# Altium schematic symbol library jlcpcb_2025_04_inductors_extended_1210.schlib: 422 symbols (part 7 of 8)
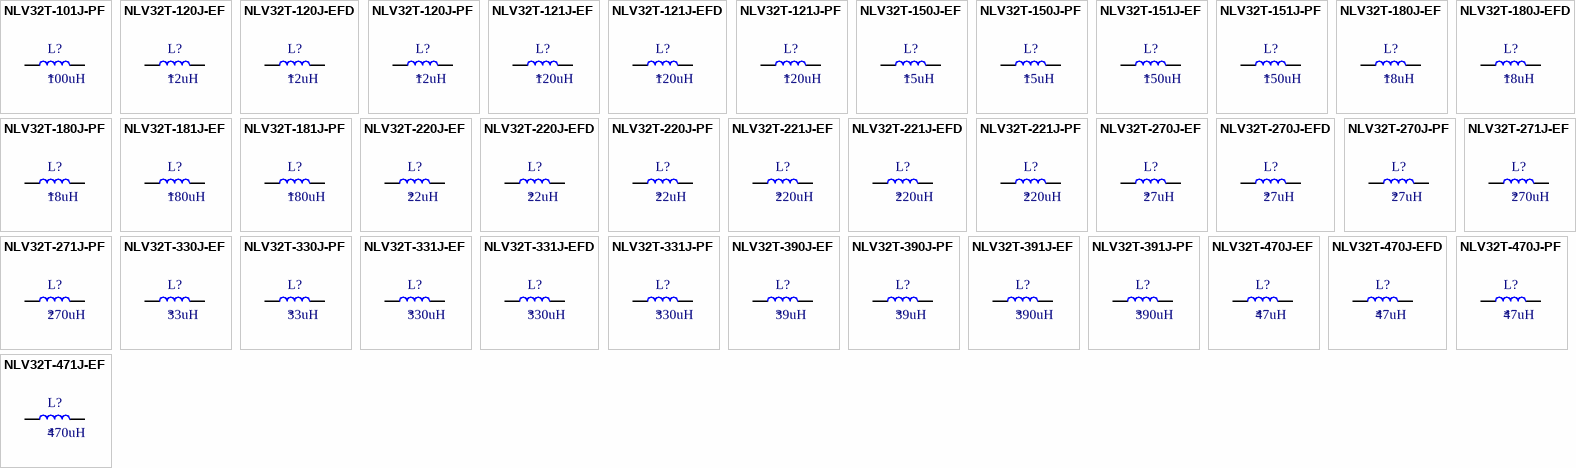
[diagram p16: symbols NLV32T-101J-PF to NLV32T-471J-EF]

## NLV32T-121J-EFD
designator L?  Inductance: 120uH
Inductor, 120uH, ±5%, 11Ω, 70mA, SMD 1210; Manufacturer: TDK; Manufacturer Part Number: NLV32T-121J-EFD; Self-Resonant Frequency: 10MHz; Q Factor: 20@0.796MHz; Package Size: 1210; JLCPCB Basic Part: No; JLCPCB Part Number: C295331; Supplier 1: LCSC; Category: Inductors; Supplier Part Number 1: C295331; Tolerance: ±5%; Rated Current: 70mA; DC Resistance: 11Ω; RoHS: Yes; ComponentLink1Description: Datasheet; ComponentLink1URL: https://wmsc.lcsc.com/wmsc/upload/file/pdf/v2/lcsc/2304140030_TDK-NLV32T-121J-EFD_C295331.pdf; ComponentLink2Description: JLCPCB Part URL; ComponentLink2URL: https://jlcpcb.com/partdetail/C295331; ComponentLink3Description: LCSC Part URL; ComponentLink3URL: https://lcsc.com/product-detail/Inductors-SMD_TDK-TDK-NLV32T-121J-EFD_C295331.html
footprint IND-1210 (1210 (3225M) Inductor)
pins: 1, 2

## NLV32T-121J-PF
designator L?  Inductance: 120uH
Inductor, 120uH, ±5%, 11Ω, 70mA, SMD 1210; Manufacturer: TDK; Manufacturer Part Number: NLV32T-121J-PF; Self-Resonant Frequency: 10MHz; Q Factor: 20@0.796MHz; Package Size: 1210; JLCPCB Basic Part: No; JLCPCB Part Number: C250178; Supplier 1: LCSC; Category: Inductors; Supplier Part Number 1: C250178; Tolerance: ±5%; Rated Current: 70mA; DC Resistance: 11Ω; RoHS: Yes; ComponentLink1Description: Datasheet; ComponentLink1URL: https://wmsc.lcsc.com/wmsc/upload/file/pdf/v2/lcsc/2304140030_TDK-NLV32T-121J-PF_C250178.pdf; ComponentLink2Description: JLCPCB Part URL; ComponentLink2URL: https://jlcpcb.com/partdetail/C250178; ComponentLink3Description: LCSC Part URL; ComponentLink3URL: https://lcsc.com/product-detail/Inductors-SMD_TDK-TDK-NLV32T-121J-PF_C250178.html
footprint IND-1210 (1210 (3225M) Inductor)
pins: 1, 2

## NLV32T-150J-EF
designator L?  Inductance: 15uH
Inductor, 15uH, ±5%, 2.8Ω, 130mA, SMD 1210; Manufacturer: TDK; Manufacturer Part Number: NLV32T-150J-EF; Self-Resonant Frequency: 20MHz; Q Factor: 30@2.52MHz; Package Size: 1210; JLCPCB Basic Part: No; JLCPCB Part Number: C295141; Supplier 1: LCSC; Category: Inductors; Supplier Part Number 1: C295141; Tolerance: ±5%; Rated Current: 130mA; DC Resistance: 2.8Ω; RoHS: Yes; ComponentLink1Description: Datasheet; ComponentLink1URL: https://wmsc.lcsc.com/wmsc/upload/file/pdf/v2/lcsc/2304140030_TDK-NLV32T-150J-EF_C295141.pdf; ComponentLink2Description: JLCPCB Part URL; ComponentLink2URL: https://jlcpcb.com/partdetail/C295141; ComponentLink3Description: LCSC Part URL; ComponentLink3URL: https://lcsc.com/product-detail/Inductors-SMD_TDK-TDK-NLV32T-150J-EF_C295141.html
footprint IND-1210 (1210 (3225M) Inductor)
pins: 1, 2

## NLV32T-150J-PF
designator L?  Inductance: 15uH
Inductor, 15uH, ±5%, 2.8Ω, 130mA, SMD 1210; Manufacturer: TDK; Manufacturer Part Number: NLV32T-150J-PF; Self-Resonant Frequency: 20MHz; Q Factor: 30@2.52MHz; Package Size: 1210; JLCPCB Basic Part: No; JLCPCB Part Number: C89013; Supplier 1: LCSC; Category: Inductors; Supplier Part Number 1: C89013; Tolerance: ±5%; Rated Current: 130mA; DC Resistance: 2.8Ω; RoHS: Yes; ComponentLink1Description: Datasheet; ComponentLink1URL: https://wmsc.lcsc.com/wmsc/upload/file/pdf/v2/lcsc/2304140030_TDK-NLV32T-150J-PF_C89013.pdf; ComponentLink2Description: JLCPCB Part URL; ComponentLink2URL: https://jlcpcb.com/partdetail/C89013; ComponentLink3Description: LCSC Part URL; ComponentLink3URL: https://lcsc.com/product-detail/Inductors-SMD_TDK-TDK-NLV32T-150J-PF_C89013.html
footprint IND-1210 (1210 (3225M) Inductor)
pins: 1, 2

## NLV32T-151J-EF
designator L?  Inductance: 150uH
Inductor, 150uH, ±5%, 15Ω, 65mA, SMD 1210; Manufacturer: TDK; Manufacturer Part Number: NLV32T-151J-EF; Self-Resonant Frequency: 8MHz; Q Factor: 20@0.796MHz; Package Size: 1210; JLCPCB Basic Part: No; JLCPCB Part Number: C286754; Supplier 1: LCSC; Category: Inductors; Supplier Part Number 1: C286754; Tolerance: ±5%; Rated Current: 65mA; DC Resistance: 15Ω; RoHS: Yes; ComponentLink1Description: Datasheet; ComponentLink1URL: https://wmsc.lcsc.com/wmsc/upload/file/pdf/v2/lcsc/2304140030_TDK-NLV32T-151J-EF_C286754.pdf; ComponentLink2Description: JLCPCB Part URL; ComponentLink2URL: https://jlcpcb.com/partdetail/C286754; ComponentLink3Description: LCSC Part URL; ComponentLink3URL: https://lcsc.com/product-detail/Inductors-SMD_TDK-TDK-NLV32T-151J-EF_C286754.html
footprint IND-1210 (1210 (3225M) Inductor)
pins: 1, 2

## NLV32T-151J-PF
designator L?  Inductance: 150uH
Inductor, 150uH, ±5%, 15Ω, 65mA, SMD 1210; Manufacturer: TDK; Manufacturer Part Number: NLV32T-151J-PF; Self-Resonant Frequency: 8MHz; Q Factor: 20@0.796MHz; Package Size: 1210; JLCPCB Basic Part: No; JLCPCB Part Number: C250179; Supplier 1: LCSC; Category: Inductors; Supplier Part Number 1: C250179; Tolerance: ±5%; Rated Current: 65mA; DC Resistance: 15Ω; RoHS: Yes; ComponentLink1Description: Datasheet; ComponentLink1URL: https://wmsc.lcsc.com/wmsc/upload/file/pdf/v2/lcsc/2304140030_TDK-NLV32T-151J-PF_C250179.pdf; ComponentLink2Description: JLCPCB Part URL; ComponentLink2URL: https://jlcpcb.com/partdetail/C250179; ComponentLink3Description: LCSC Part URL; ComponentLink3URL: https://lcsc.com/product-detail/Inductors-SMD_TDK-TDK-NLV32T-151J-PF_C250179.html
footprint IND-1210 (1210 (3225M) Inductor)
pins: 1, 2

## NLV32T-180J-EF
designator L?  Inductance: 18uH
Inductor, 18uH, ±5%, 3.3Ω, 120mA, SMD 1210; Manufacturer: TDK; Manufacturer Part Number: NLV32T-180J-EF; Self-Resonant Frequency: 20MHz; Q Factor: 30@2.52MHz; Package Size: 1210; JLCPCB Basic Part: No; JLCPCB Part Number: C295126; Supplier 1: LCSC; Category: Inductors; Supplier Part Number 1: C295126; Tolerance: ±5%; Rated Current: 120mA; DC Resistance: 3.3Ω; RoHS: Yes; ComponentLink1Description: Datasheet; ComponentLink1URL: https://wmsc.lcsc.com/wmsc/upload/file/pdf/v2/lcsc/2304140030_TDK-NLV32T-180J-EF_C295126.pdf; ComponentLink2Description: JLCPCB Part URL; ComponentLink2URL: https://jlcpcb.com/partdetail/C295126; ComponentLink3Description: LCSC Part URL; ComponentLink3URL: https://lcsc.com/product-detail/Inductors-SMD_TDK-TDK-NLV32T-180J-EF_C295126.html
footprint IND-1210 (1210 (3225M) Inductor)
pins: 1, 2

## NLV32T-180J-EFD
designator L?  Inductance: 18uH
Inductor, 18uH, ±5%, 3.3Ω, 120mA, SMD 1210; Manufacturer: TDK; Manufacturer Part Number: NLV32T-180J-EFD; Self-Resonant Frequency: 20MHz; Q Factor: 30@2.52MHz; Package Size: 1210; JLCPCB Basic Part: No; JLCPCB Part Number: C295205; Supplier 1: LCSC; Category: Inductors; Supplier Part Number 1: C295205; Tolerance: ±5%; Rated Current: 120mA; DC Resistance: 3.3Ω; RoHS: Yes; ComponentLink1Description: Datasheet; ComponentLink1URL: https://wmsc.lcsc.com/wmsc/upload/file/pdf/v2/lcsc/2304140030_TDK-NLV32T-180J-EFD_C295205.pdf; ComponentLink2Description: JLCPCB Part URL; ComponentLink2URL: https://jlcpcb.com/partdetail/C295205; ComponentLink3Description: LCSC Part URL; ComponentLink3URL: https://lcsc.com/product-detail/Inductors-SMD_TDK-TDK-NLV32T-180J-EFD_C295205.html
footprint IND-1210 (1210 (3225M) Inductor)
pins: 1, 2

## NLV32T-180J-PF
designator L?  Inductance: 18uH
Inductor, 18uH, ±5%, 3.3Ω, 120mA, SMD 1210; Manufacturer: TDK; Manufacturer Part Number: NLV32T-180J-PF; Self-Resonant Frequency: 20MHz; Q Factor: 30@2.52MHz; Package Size: 1210; JLCPCB Basic Part: No; JLCPCB Part Number: C250177; Supplier 1: LCSC; Category: Inductors; Supplier Part Number 1: C250177; Tolerance: ±5%; Rated Current: 120mA; DC Resistance: 3.3Ω; RoHS: Yes; ComponentLink1Description: Datasheet; ComponentLink1URL: https://wmsc.lcsc.com/wmsc/upload/file/pdf/v2/lcsc/2304140030_TDK-NLV32T-180J-PF_C250177.pdf; ComponentLink2Description: JLCPCB Part URL; ComponentLink2URL: https://jlcpcb.com/partdetail/C250177; ComponentLink3Description: LCSC Part URL; ComponentLink3URL: https://lcsc.com/product-detail/Inductors-SMD_TDK-TDK-NLV32T-180J-PF_C250177.html
footprint IND-1210 (1210 (3225M) Inductor)
pins: 1, 2

## NLV32T-181J-EF
designator L?  Inductance: 180uH
Inductor, 180uH, ±5%, 17Ω, 60mA, SMD 1210; Manufacturer: TDK; Manufacturer Part Number: NLV32T-181J-EF; Self-Resonant Frequency: 7MHz; Q Factor: 20@0.796MHz; Package Size: 1210; JLCPCB Basic Part: No; JLCPCB Part Number: C295119; Supplier 1: LCSC; Category: Inductors; Supplier Part Number 1: C295119; Tolerance: ±5%; Rated Current: 60mA; DC Resistance: 17Ω; RoHS: Yes; ComponentLink1Description: Datasheet; ComponentLink1URL: https://wmsc.lcsc.com/wmsc/upload/file/pdf/v2/lcsc/2304140030_TDK-NLV32T-181J-EF_C295119.pdf; ComponentLink2Description: JLCPCB Part URL; ComponentLink2URL: https://jlcpcb.com/partdetail/C295119; ComponentLink3Description: LCSC Part URL; ComponentLink3URL: https://lcsc.com/product-detail/Inductors-SMD_TDK-TDK-NLV32T-181J-EF_C295119.html
footprint IND-1210 (1210 (3225M) Inductor)
pins: 1, 2

## NLV32T-181J-PF
designator L?  Inductance: 180uH
Inductor, 180uH, ±5%, 17Ω, 60mA, SMD 1210; Manufacturer: TDK; Manufacturer Part Number: NLV32T-181J-PF; Self-Resonant Frequency: 7MHz; Q Factor: 20@0.796MHz; Package Size: 1210; JLCPCB Basic Part: No; JLCPCB Part Number: C89014; Supplier 1: LCSC; Category: Inductors; Supplier Part Number 1: C89014; Tolerance: ±5%; Rated Current: 60mA; DC Resistance: 17Ω; RoHS: Yes; ComponentLink1Description: Datasheet; ComponentLink1URL: https://wmsc.lcsc.com/wmsc/upload/file/pdf/v2/lcsc/2304140030_TDK-NLV32T-181J-PF_C89014.pdf; ComponentLink2Description: JLCPCB Part URL; ComponentLink2URL: https://jlcpcb.com/partdetail/C89014; ComponentLink3Description: LCSC Part URL; ComponentLink3URL: https://lcsc.com/product-detail/Inductors-SMD_TDK-TDK-NLV32T-181J-PF_C89014.html
footprint IND-1210 (1210 (3225M) Inductor)
pins: 1, 2

## NLV32T-220J-EF
designator L?  Inductance: 22uH
Inductor, 22uH, ±5%, 3.7Ω, 110mA, SMD 1210; Manufacturer: TDK; Manufacturer Part Number: NLV32T-220J-EF; Self-Resonant Frequency: 20MHz; Q Factor: 30@2.52MHz; Package Size: 1210; JLCPCB Basic Part: No; JLCPCB Part Number: C295143; Supplier 1: LCSC; Category: Inductors; Supplier Part Number 1: C295143; Tolerance: ±5%; Rated Current: 110mA; DC Resistance: 3.7Ω; RoHS: Yes; ComponentLink1Description: Datasheet; ComponentLink1URL: https://wmsc.lcsc.com/wmsc/upload/file/pdf/v2/lcsc/2304140030_TDK-NLV32T-220J-EF_C295143.pdf; ComponentLink2Description: JLCPCB Part URL; ComponentLink2URL: https://jlcpcb.com/partdetail/C295143; ComponentLink3Description: LCSC Part URL; ComponentLink3URL: https://lcsc.com/product-detail/Inductors-SMD_TDK-TDK-NLV32T-220J-EF_C295143.html
footprint IND-1210 (1210 (3225M) Inductor)
pins: 1, 2

## NLV32T-220J-EFD
designator L?  Inductance: 22uH
Inductor, 22uH, ±5%, 3.7Ω, 110mA, SMD 1210; Manufacturer: TDK; Manufacturer Part Number: NLV32T-220J-EFD; Self-Resonant Frequency: 20MHz; Q Factor: 30@2.52MHz; Package Size: 1210; JLCPCB Basic Part: No; JLCPCB Part Number: C295206; Supplier 1: LCSC; Category: Inductors; Supplier Part Number 1: C295206; Tolerance: ±5%; Rated Current: 110mA; DC Resistance: 3.7Ω; RoHS: Yes; ComponentLink1Description: Datasheet; ComponentLink1URL: https://wmsc.lcsc.com/wmsc/upload/file/pdf/v2/lcsc/2304140030_TDK-NLV32T-220J-EFD_C295206.pdf; ComponentLink2Description: JLCPCB Part URL; ComponentLink2URL: https://jlcpcb.com/partdetail/C295206; ComponentLink3Description: LCSC Part URL; ComponentLink3URL: https://lcsc.com/product-detail/Inductors-SMD_TDK-TDK-NLV32T-220J-EFD_C295206.html
footprint IND-1210 (1210 (3225M) Inductor)
pins: 1, 2

## NLV32T-220J-PF
designator L?  Inductance: 22uH
Inductor, 22uH, ±5%, 3.7Ω, 110mA, SMD 1210; Manufacturer: TDK; Manufacturer Part Number: NLV32T-220J-PF; Self-Resonant Frequency: 20MHz; Q Factor: 30@2.52MHz; Package Size: 1210; JLCPCB Basic Part: No; JLCPCB Part Number: C76838; Supplier 1: LCSC; Category: Inductors; Supplier Part Number 1: C76838; Tolerance: ±5%; Rated Current: 110mA; DC Resistance: 3.7Ω; RoHS: Yes; ComponentLink1Description: Datasheet; ComponentLink1URL: https://wmsc.lcsc.com/wmsc/upload/file/pdf/v2/lcsc/2304140030_TDK-NLV32T-220J-PF_C76838.pdf; ComponentLink2Description: JLCPCB Part URL; ComponentLink2URL: https://jlcpcb.com/partdetail/C76838; ComponentLink3Description: LCSC Part URL; ComponentLink3URL: https://lcsc.com/product-detail/Inductors-SMD_TDK-TDK-NLV32T-220J-PF_C76838.html
footprint IND-1210 (1210 (3225M) Inductor)
pins: 1, 2

## NLV32T-221J-EF
designator L?  Inductance: 220uH
Inductor, 220uH, ±5%, 21Ω, 50mA, SMD 1210; Manufacturer: TDK; Manufacturer Part Number: NLV32T-221J-EF; Self-Resonant Frequency: 7MHz; Q Factor: 20@0.796MHz; Package Size: 1210; JLCPCB Basic Part: No; JLCPCB Part Number: C295114; Supplier 1: LCSC; Category: Inductors; Supplier Part Number 1: C295114; Tolerance: ±5%; Rated Current: 50mA; DC Resistance: 21Ω; RoHS: Yes; ComponentLink1Description: Datasheet; ComponentLink1URL: https://wmsc.lcsc.com/wmsc/upload/file/pdf/v2/lcsc/2304140030_TDK-NLV32T-221J-EF_C295114.pdf; ComponentLink2Description: JLCPCB Part URL; ComponentLink2URL: https://jlcpcb.com/partdetail/C295114; ComponentLink3Description: LCSC Part URL; ComponentLink3URL: https://lcsc.com/product-detail/Inductors-SMD_TDK-TDK-NLV32T-221J-EF_C295114.html
footprint IND-1210 (1210 (3225M) Inductor)
pins: 1, 2

## NLV32T-221J-EFD
designator L?  Inductance: 220uH
Inductor, 220uH, ±5%, 21Ω, 50mA, SMD 1210; Manufacturer: TDK; Manufacturer Part Number: NLV32T-221J-EFD; Self-Resonant Frequency: 7MHz; Q Factor: 20@0.796MHz; Package Size: 1210; JLCPCB Basic Part: No; JLCPCB Part Number: C295364; Supplier 1: LCSC; Category: Inductors; Supplier Part Number 1: C295364; Tolerance: ±5%; Rated Current: 50mA; DC Resistance: 21Ω; RoHS: Yes; ComponentLink1Description: Datasheet; ComponentLink1URL: https://wmsc.lcsc.com/wmsc/upload/file/pdf/v2/lcsc/2304140030_TDK-NLV32T-221J-EFD_C295364.pdf; ComponentLink2Description: JLCPCB Part URL; ComponentLink2URL: https://jlcpcb.com/partdetail/C295364; ComponentLink3Description: LCSC Part URL; ComponentLink3URL: https://lcsc.com/product-detail/Inductors-SMD_TDK-TDK-NLV32T-221J-EFD_C295364.html
footprint IND-1210 (1210 (3225M) Inductor)
pins: 1, 2

## NLV32T-221J-PF
designator L?  Inductance: 220uH
Inductor, 220uH, ±5%, 21Ω, 50mA, SMD 1210; Manufacturer: TDK; Manufacturer Part Number: NLV32T-221J-PF; Self-Resonant Frequency: 7MHz; Q Factor: 20@0.796MHz; Package Size: 1210; JLCPCB Basic Part: No; JLCPCB Part Number: C89015; Supplier 1: LCSC; Category: Inductors; Supplier Part Number 1: C89015; Tolerance: ±5%; Rated Current: 50mA; DC Resistance: 21Ω; RoHS: Yes; ComponentLink1Description: Datasheet; ComponentLink1URL: https://wmsc.lcsc.com/wmsc/upload/file/pdf/v2/lcsc/2304140030_TDK-NLV32T-221J-PF_C89015.pdf; ComponentLink2Description: JLCPCB Part URL; ComponentLink2URL: https://jlcpcb.com/partdetail/C89015; ComponentLink3Description: LCSC Part URL; ComponentLink3URL: https://lcsc.com/product-detail/Inductors-SMD_TDK-TDK-NLV32T-221J-PF_C89015.html
footprint IND-1210 (1210 (3225M) Inductor)
pins: 1, 2

## NLV32T-270J-EF
designator L?  Inductance: 27uH
Inductor, 27uH, ±5%, 5Ω, 80mA, SMD 1210; Manufacturer: TDK; Manufacturer Part Number: NLV32T-270J-EF; Self-Resonant Frequency: 20MHz; Q Factor: 30@2.52MHz; Package Size: 1210; JLCPCB Basic Part: No; JLCPCB Part Number: C295122; Supplier 1: LCSC; Category: Inductors; Supplier Part Number 1: C295122; Tolerance: ±5%; Rated Current: 80mA; DC Resistance: 5Ω; RoHS: Yes; ComponentLink1Description: Datasheet; ComponentLink1URL: https://wmsc.lcsc.com/wmsc/upload/file/pdf/v2/lcsc/2304140030_TDK-NLV32T-270J-EF_C295122.pdf; ComponentLink2Description: JLCPCB Part URL; ComponentLink2URL: https://jlcpcb.com/partdetail/C295122; ComponentLink3Description: LCSC Part URL; ComponentLink3URL: https://lcsc.com/product-detail/Inductors-SMD_TDK-TDK-NLV32T-270J-EF_C295122.html
footprint IND-1210 (1210 (3225M) Inductor)
pins: 1, 2

## NLV32T-270J-EFD
designator L?  Inductance: 27uH
Inductor, 27uH, ±5%, 5Ω, 80mA, SMD 1210; Manufacturer: TDK; Manufacturer Part Number: NLV32T-270J-EFD; Self-Resonant Frequency: 20MHz; Q Factor: 30@2.52MHz; Package Size: 1210; JLCPCB Basic Part: No; JLCPCB Part Number: C295365; Supplier 1: LCSC; Category: Inductors; Supplier Part Number 1: C295365; Tolerance: ±5%; Rated Current: 80mA; DC Resistance: 5Ω; RoHS: Yes; ComponentLink1Description: Datasheet; ComponentLink1URL: https://wmsc.lcsc.com/wmsc/upload/file/pdf/v2/lcsc/2304140030_TDK-NLV32T-270J-EFD_C295365.pdf; ComponentLink2Description: JLCPCB Part URL; ComponentLink2URL: https://jlcpcb.com/partdetail/C295365; ComponentLink3Description: LCSC Part URL; ComponentLink3URL: https://lcsc.com/product-detail/Inductors-SMD_TDK-TDK-NLV32T-270J-EFD_C295365.html
footprint IND-1210 (1210 (3225M) Inductor)
pins: 1, 2

## NLV32T-270J-PF
designator L?  Inductance: 27uH
Inductor, 27uH, ±5%, 5Ω, 80mA, SMD 1210; Manufacturer: TDK; Manufacturer Part Number: NLV32T-270J-PF; Self-Resonant Frequency: 20MHz; Q Factor: 30@2.52MHz; Package Size: 1210; JLCPCB Basic Part: No; JLCPCB Part Number: C76839; Supplier 1: LCSC; Category: Inductors; Supplier Part Number 1: C76839; Tolerance: ±5%; Rated Current: 80mA; DC Resistance: 5Ω; RoHS: Yes; ComponentLink1Description: Datasheet; ComponentLink1URL: https://wmsc.lcsc.com/wmsc/upload/file/pdf/v2/lcsc/2304140030_TDK-NLV32T-270J-PF_C76839.pdf; ComponentLink2Description: JLCPCB Part URL; ComponentLink2URL: https://jlcpcb.com/partdetail/C76839; ComponentLink3Description: LCSC Part URL; ComponentLink3URL: https://lcsc.com/product-detail/Inductors-SMD_TDK-TDK-NLV32T-270J-PF_C76839.html
footprint IND-1210 (1210 (3225M) Inductor)
pins: 1, 2

## NLV32T-271J-EF
designator L?  Inductance: 270uH
Inductor, 270uH, ±5%, 28Ω, 45mA, SMD 1210; Manufacturer: TDK; Manufacturer Part Number: NLV32T-271J-EF; Self-Resonant Frequency: 6MHz; Q Factor: 20@0.796MHz; Package Size: 1210; JLCPCB Basic Part: No; JLCPCB Part Number: C295111; Supplier 1: LCSC; Category: Inductors; Supplier Part Number 1: C295111; Tolerance: ±5%; Rated Current: 45mA; DC Resistance: 28Ω; RoHS: Yes; ComponentLink1Description: Datasheet; ComponentLink1URL: https://wmsc.lcsc.com/wmsc/upload/file/pdf/v2/lcsc/2304140030_TDK-NLV32T-271J-EF_C295111.pdf; ComponentLink2Description: JLCPCB Part URL; ComponentLink2URL: https://jlcpcb.com/partdetail/C295111; ComponentLink3Description: LCSC Part URL; ComponentLink3URL: https://lcsc.com/product-detail/Inductors-SMD_TDK-TDK-NLV32T-271J-EF_C295111.html
footprint IND-1210 (1210 (3225M) Inductor)
pins: 1, 2

## NLV32T-271J-PF
designator L?  Inductance: 270uH
Inductor, 270uH, ±5%, 28Ω, 45mA, SMD 1210; Manufacturer: TDK; Manufacturer Part Number: NLV32T-271J-PF; Self-Resonant Frequency: 6MHz; Q Factor: 20@0.796MHz; Package Size: 1210; JLCPCB Basic Part: No; JLCPCB Part Number: C250180; Supplier 1: LCSC; Category: Inductors; Supplier Part Number 1: C250180; Tolerance: ±5%; Rated Current: 45mA; DC Resistance: 28Ω; RoHS: Yes; ComponentLink1Description: Datasheet; ComponentLink1URL: https://wmsc.lcsc.com/wmsc/upload/file/pdf/v2/lcsc/2304140030_TDK-NLV32T-271J-PF_C250180.pdf; ComponentLink2Description: JLCPCB Part URL; ComponentLink2URL: https://jlcpcb.com/partdetail/C250180; ComponentLink3Description: LCSC Part URL; ComponentLink3URL: https://lcsc.com/product-detail/Inductors-SMD_TDK-TDK-NLV32T-271J-PF_C250180.html
footprint IND-1210 (1210 (3225M) Inductor)
pins: 1, 2

## NLV32T-330J-EF
designator L?  Inductance: 33uH
Inductor, 33uH, ±5%, 5.6Ω, 70mA, SMD 1210; Manufacturer: TDK; Manufacturer Part Number: NLV32T-330J-EF; Self-Resonant Frequency: 17MHz; Q Factor: 30@2.52MHz; Package Size: 1210; JLCPCB Basic Part: No; JLCPCB Part Number: C295144; Supplier 1: LCSC; Category: Inductors; Supplier Part Number 1: C295144; Tolerance: ±5%; Rated Current: 70mA; DC Resistance: 5.6Ω; RoHS: Yes; ComponentLink1Description: Datasheet; ComponentLink1URL: https://wmsc.lcsc.com/wmsc/upload/file/pdf/v2/lcsc/2304140030_TDK-NLV32T-330J-EF_C295144.pdf; ComponentLink2Description: JLCPCB Part URL; ComponentLink2URL: https://jlcpcb.com/partdetail/C295144; ComponentLink3Description: LCSC Part URL; ComponentLink3URL: https://lcsc.com/product-detail/Inductors-SMD_TDK-TDK-NLV32T-330J-EF_C295144.html
footprint IND-1210 (1210 (3225M) Inductor)
pins: 1, 2

## NLV32T-330J-PF
designator L?  Inductance: 33uH
Inductor, 33uH, ±5%, 5.6Ω, 70mA, SMD 1210; Manufacturer: TDK; Manufacturer Part Number: NLV32T-330J-PF; Self-Resonant Frequency: 17MHz; Q Factor: 30@2.52MHz; Package Size: 1210; JLCPCB Basic Part: No; JLCPCB Part Number: C76840; Supplier 1: LCSC; Category: Inductors; Supplier Part Number 1: C76840; Tolerance: ±5%; Rated Current: 70mA; DC Resistance: 5.6Ω; RoHS: Yes; ComponentLink1Description: Datasheet; ComponentLink1URL: https://wmsc.lcsc.com/wmsc/upload/file/pdf/v2/lcsc/2304140030_TDK-NLV32T-330J-PF_C76840.pdf; ComponentLink2Description: JLCPCB Part URL; ComponentLink2URL: https://jlcpcb.com/partdetail/C76840; ComponentLink3Description: LCSC Part URL; ComponentLink3URL: https://lcsc.com/product-detail/Inductors-SMD_TDK-TDK-NLV32T-330J-PF_C76840.html
footprint IND-1210 (1210 (3225M) Inductor)
pins: 1, 2

## NLV32T-331J-EF
designator L?  Inductance: 330uH
Inductor, 330uH, ±5%, 34Ω, 40mA, SMD 1210; Manufacturer: TDK; Manufacturer Part Number: NLV32T-331J-EF; Self-Resonant Frequency: 5MHz; Q Factor: 20@0.796MHz; Package Size: 1210; JLCPCB Basic Part: No; JLCPCB Part Number: C295229; Supplier 1: LCSC; Category: Inductors; Supplier Part Number 1: C295229; Tolerance: ±5%; Rated Current: 40mA; DC Resistance: 34Ω; RoHS: Yes; ComponentLink1Description: Datasheet; ComponentLink1URL: https://wmsc.lcsc.com/wmsc/upload/file/pdf/v2/lcsc/1912111437_TDK-NLV32T-331J-EF_C295229.pdf; ComponentLink2Description: JLCPCB Part URL; ComponentLink2URL: https://jlcpcb.com/partdetail/C295229; ComponentLink3Description: LCSC Part URL; ComponentLink3URL: https://lcsc.com/product-detail/Inductors-SMD_TDK-TDK-NLV32T-331J-EF_C295229.html
footprint IND-1210 (1210 (3225M) Inductor)
pins: 1, 2

## NLV32T-331J-EFD
designator L?  Inductance: 330uH
Inductor, 330uH, ±5%, 34Ω, 40mA, SMD 1210; Manufacturer: TDK; Manufacturer Part Number: NLV32T-331J-EFD; Self-Resonant Frequency: 5MHz; Q Factor: 20@0.796MHz; Package Size: 1210; JLCPCB Basic Part: No; JLCPCB Part Number: C295304; Supplier 1: LCSC; Category: Inductors; Supplier Part Number 1: C295304; Tolerance: ±5%; Rated Current: 40mA; DC Resistance: 34Ω; RoHS: Yes; ComponentLink1Description: Datasheet; ComponentLink1URL: https://wmsc.lcsc.com/wmsc/upload/file/pdf/v2/lcsc/2304140030_TDK-NLV32T-331J-EFD_C295304.pdf; ComponentLink2Description: JLCPCB Part URL; ComponentLink2URL: https://jlcpcb.com/partdetail/C295304; ComponentLink3Description: LCSC Part URL; ComponentLink3URL: https://lcsc.com/product-detail/Inductors-SMD_TDK-TDK-NLV32T-331J-EFD_C295304.html
footprint IND-1210 (1210 (3225M) Inductor)
pins: 1, 2

## NLV32T-331J-PF
designator L?  Inductance: 330uH
Inductor, 330uH, ±5%, 34Ω, 40mA, SMD 1210; Manufacturer: TDK; Manufacturer Part Number: NLV32T-331J-PF; Self-Resonant Frequency: 5MHz; Q Factor: 20@0.796MHz; Package Size: 1210; JLCPCB Basic Part: No; JLCPCB Part Number: C89018; Supplier 1: LCSC; Category: Inductors; Supplier Part Number 1: C89018; Tolerance: ±5%; Rated Current: 40mA; DC Resistance: 34Ω; RoHS: Yes; ComponentLink1Description: Datasheet; ComponentLink1URL: https://wmsc.lcsc.com/wmsc/upload/file/pdf/v2/lcsc/2304140030_TDK-NLV32T-331J-PF_C89018.pdf; ComponentLink2Description: JLCPCB Part URL; ComponentLink2URL: https://jlcpcb.com/partdetail/C89018; ComponentLink3Description: LCSC Part URL; ComponentLink3URL: https://lcsc.com/product-detail/Inductors-SMD_TDK-TDK-NLV32T-331J-PF_C89018.html
footprint IND-1210 (1210 (3225M) Inductor)
pins: 1, 2

## NLV32T-390J-EF
designator L?  Inductance: 39uH
Inductor, 39uH, ±5%, 6.4Ω, 65mA, SMD 1210; Manufacturer: TDK; Manufacturer Part Number: NLV32T-390J-EF; Self-Resonant Frequency: 16MHz; Q Factor: 30@2.52MHz; Package Size: 1210; JLCPCB Basic Part: No; JLCPCB Part Number: C295153; Supplier 1: LCSC; Category: Inductors; Supplier Part Number 1: C295153; Tolerance: ±5%; Rated Current: 65mA; DC Resistance: 6.4Ω; RoHS: Yes; ComponentLink1Description: Datasheet; ComponentLink1URL: https://wmsc.lcsc.com/wmsc/upload/file/pdf/v2/lcsc/2304140030_TDK-NLV32T-390J-EF_C295153.pdf; ComponentLink2Description: JLCPCB Part URL; ComponentLink2URL: https://jlcpcb.com/partdetail/C295153; ComponentLink3Description: LCSC Part URL; ComponentLink3URL: https://lcsc.com/product-detail/Inductors-SMD_TDK-TDK-NLV32T-390J-EF_C295153.html
footprint IND-1210 (1210 (3225M) Inductor)
pins: 1, 2

## NLV32T-390J-PF
designator L?  Inductance: 39uH
Inductor, 39uH, ±5%, 6.4Ω, 65mA, SMD 1210; Manufacturer: TDK; Manufacturer Part Number: NLV32T-390J-PF; Self-Resonant Frequency: 16MHz; Q Factor: 30@2.52MHz; Package Size: 1210; JLCPCB Basic Part: No; JLCPCB Part Number: C76841; Supplier 1: LCSC; Category: Inductors; Supplier Part Number 1: C76841; Tolerance: ±5%; Rated Current: 65mA; DC Resistance: 6.4Ω; RoHS: Yes; ComponentLink1Description: Datasheet; ComponentLink1URL: https://wmsc.lcsc.com/wmsc/upload/file/pdf/v2/lcsc/2304140030_TDK-NLV32T-390J-PF_C76841.pdf; ComponentLink2Description: JLCPCB Part URL; ComponentLink2URL: https://jlcpcb.com/partdetail/C76841; ComponentLink3Description: LCSC Part URL; ComponentLink3URL: https://lcsc.com/product-detail/Inductors-SMD_TDK-TDK-NLV32T-390J-PF_C76841.html
footprint IND-1210 (1210 (3225M) Inductor)
pins: 1, 2

## NLV32T-391J-EF
designator L?  Inductance: 390uH
Inductor, 390uH, ±5%, 36Ω, 35mA, SMD 1210; Manufacturer: TDK; Manufacturer Part Number: NLV32T-391J-EF; Self-Resonant Frequency: 5MHz; Q Factor: 20@0.796MHz; Package Size: 1210; JLCPCB Basic Part: No; JLCPCB Part Number: C286758; Supplier 1: LCSC; Category: Inductors; Supplier Part Number 1: C286758; Tolerance: ±5%; Rated Current: 35mA; DC Resistance: 36Ω; RoHS: Yes; ComponentLink1Description: Datasheet; ComponentLink1URL: https://wmsc.lcsc.com/wmsc/upload/file/pdf/v2/lcsc/2304140030_TDK-NLV32T-391J-EF_C286758.pdf; ComponentLink2Description: JLCPCB Part URL; ComponentLink2URL: https://jlcpcb.com/partdetail/C286758; ComponentLink3Description: LCSC Part URL; ComponentLink3URL: https://lcsc.com/product-detail/Inductors-SMD_TDK-TDK-NLV32T-391J-EF_C286758.html
footprint IND-1210 (1210 (3225M) Inductor)
pins: 1, 2

## NLV32T-391J-PF
designator L?  Inductance: 390uH
Inductor, 390uH, ±5%, 36Ω, 35mA, SMD 1210; Manufacturer: TDK; Manufacturer Part Number: NLV32T-391J-PF; Self-Resonant Frequency: 5MHz; Q Factor: 20@0.796MHz; Package Size: 1210; JLCPCB Basic Part: No; JLCPCB Part Number: C250181; Supplier 1: LCSC; Category: Inductors; Supplier Part Number 1: C250181; Tolerance: ±5%; Rated Current: 35mA; DC Resistance: 36Ω; RoHS: Yes; ComponentLink1Description: Datasheet; ComponentLink1URL: https://wmsc.lcsc.com/wmsc/upload/file/pdf/v2/lcsc/1810201252_TDK-NLV32T-391J-PF_C250181.pdf; ComponentLink2Description: JLCPCB Part URL; ComponentLink2URL: https://jlcpcb.com/partdetail/C250181; ComponentLink3Description: LCSC Part URL; ComponentLink3URL: https://lcsc.com/product-detail/Inductors-SMD_TDK-TDK-NLV32T-391J-PF_C250181.html
footprint IND-1210 (1210 (3225M) Inductor)
pins: 1, 2

## NLV32T-470J-EF
designator L?  Inductance: 47uH
Inductor, 47uH, ±5%, 7Ω, 60mA, SMD 1210; Manufacturer: TDK; Manufacturer Part Number: NLV32T-470J-EF; Self-Resonant Frequency: 15MHz; Q Factor: 30@2.52MHz; Package Size: 1210; JLCPCB Basic Part: No; JLCPCB Part Number: C295123; Supplier 1: LCSC; Category: Inductors; Supplier Part Number 1: C295123; Tolerance: ±5%; Rated Current: 60mA; DC Resistance: 7Ω; RoHS: Yes; ComponentLink1Description: Datasheet; ComponentLink1URL: https://wmsc.lcsc.com/wmsc/upload/file/pdf/v2/lcsc/2304140030_TDK-NLV32T-470J-EF_C295123.pdf; ComponentLink2Description: JLCPCB Part URL; ComponentLink2URL: https://jlcpcb.com/partdetail/C295123; ComponentLink3Description: LCSC Part URL; ComponentLink3URL: https://lcsc.com/product-detail/Inductors-SMD_TDK-TDK-NLV32T-470J-EF_C295123.html
footprint IND-1210 (1210 (3225M) Inductor)
pins: 1, 2

## NLV32T-470J-EFD
designator L?  Inductance: 47uH
Inductor, 47uH, ±5%, 7Ω, 60mA, SMD 1210; Manufacturer: TDK; Manufacturer Part Number: NLV32T-470J-EFD; Self-Resonant Frequency: 15MHz; Q Factor: 30@2.52MHz; Package Size: 1210; JLCPCB Basic Part: No; JLCPCB Part Number: C295368; Supplier 1: LCSC; Category: Inductors; Supplier Part Number 1: C295368; Tolerance: ±5%; Rated Current: 60mA; DC Resistance: 7Ω; RoHS: Yes; ComponentLink1Description: Datasheet; ComponentLink1URL: https://wmsc.lcsc.com/wmsc/upload/file/pdf/v2/lcsc/2304140030_TDK-NLV32T-470J-EFD_C295368.pdf; ComponentLink2Description: JLCPCB Part URL; ComponentLink2URL: https://jlcpcb.com/partdetail/C295368; ComponentLink3Description: LCSC Part URL; ComponentLink3URL: https://lcsc.com/product-detail/Inductors-SMD_TDK-TDK-NLV32T-470J-EFD_C295368.html
footprint IND-1210 (1210 (3225M) Inductor)
pins: 1, 2

## NLV32T-470J-PF
designator L?  Inductance: 47uH
Inductor, 47uH, ±5%, 7Ω, 60mA, SMD 1210; Manufacturer: TDK; Manufacturer Part Number: NLV32T-470J-PF; Self-Resonant Frequency: 15MHz; Q Factor: 30@2.52MHz; Package Size: 1210; JLCPCB Basic Part: No; JLCPCB Part Number: C66936; Supplier 1: LCSC; Category: Inductors; Supplier Part Number 1: C66936; Tolerance: ±5%; Rated Current: 60mA; DC Resistance: 7Ω; RoHS: Yes; ComponentLink1Description: Datasheet; ComponentLink1URL: https://wmsc.lcsc.com/wmsc/upload/file/pdf/v2/lcsc/2304140030_TDK-NLV32T-470J-PF_C66936.pdf; ComponentLink2Description: JLCPCB Part URL; ComponentLink2URL: https://jlcpcb.com/partdetail/C66936; ComponentLink3Description: LCSC Part URL; ComponentLink3URL: https://lcsc.com/product-detail/Inductors-SMD_TDK-TDK-NLV32T-470J-PF_C66936.html
footprint IND-1210 (1210 (3225M) Inductor)
pins: 1, 2

## NLV32T-471J-EF
designator L?  Inductance: 470uH
Inductor, 470uH, ±5%, 40Ω, 25mA, SMD 1210; Manufacturer: TDK; Manufacturer Part Number: NLV32T-471J-EF; Self-Resonant Frequency: 4MHz; Q Factor: 20@0.796MHz; Package Size: 1210; JLCPCB Basic Part: No; JLCPCB Part Number: C295109; Supplier 1: LCSC; Category: Inductors; Supplier Part Number 1: C295109; Tolerance: ±5%; Rated Current: 25mA; DC Resistance: 40Ω; RoHS: Yes; ComponentLink1Description: Datasheet; ComponentLink1URL: https://wmsc.lcsc.com/wmsc/upload/file/pdf/v2/lcsc/2304140030_TDK-NLV32T-471J-EF_C295109.pdf; ComponentLink2Description: JLCPCB Part URL; ComponentLink2URL: https://jlcpcb.com/partdetail/C295109; ComponentLink3Description: LCSC Part URL; ComponentLink3URL: https://lcsc.com/product-detail/Inductors-SMD_TDK-TDK-NLV32T-471J-EF_C295109.html
footprint IND-1210 (1210 (3225M) Inductor)
pins: 1, 2

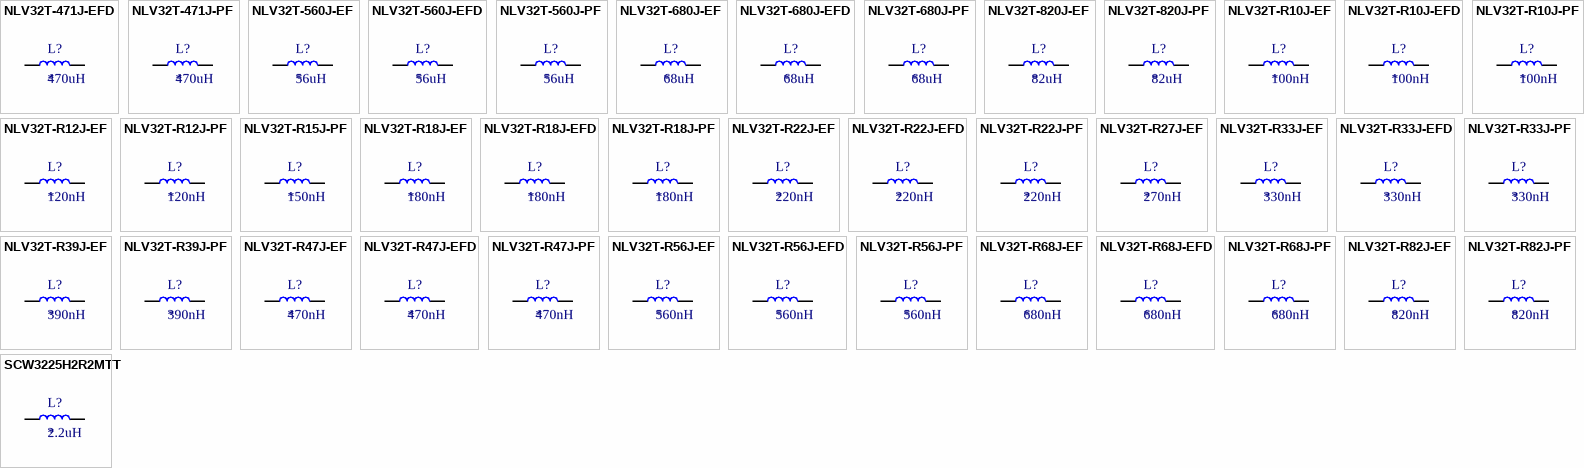
[diagram p9: symbols NLV32T-471J-EFD to SCW3225H2R2MTT]

## NLV32T-471J-EFD
designator L?  Inductance: 470uH
Inductor, 470uH, ±5%, 40Ω, 25mA, SMD 1210; Manufacturer: TDK; Manufacturer Part Number: NLV32T-471J-EFD; Self-Resonant Frequency: 4MHz; Q Factor: 20@0.796MHz; Package Size: 1210; JLCPCB Basic Part: No; JLCPCB Part Number: C295218; Supplier 1: LCSC; Category: Inductors; Supplier Part Number 1: C295218; Tolerance: ±5%; Rated Current: 25mA; DC Resistance: 40Ω; RoHS: Yes; ComponentLink1Description: Datasheet; ComponentLink1URL: https://wmsc.lcsc.com/wmsc/upload/file/pdf/v2/lcsc/2304140030_TDK-NLV32T-471J-EFD_C295218.pdf; ComponentLink2Description: JLCPCB Part URL; ComponentLink2URL: https://jlcpcb.com/partdetail/C295218; ComponentLink3Description: LCSC Part URL; ComponentLink3URL: https://lcsc.com/product-detail/Inductors-SMD_TDK-TDK-NLV32T-471J-EFD_C295218.html
footprint IND-1210 (1210 (3225M) Inductor)
pins: 1, 2

## NLV32T-471J-PF
designator L?  Inductance: 470uH
Inductor, 470uH, ±5%, 40Ω, 25mA, SMD 1210; Manufacturer: TDK; Manufacturer Part Number: NLV32T-471J-PF; Self-Resonant Frequency: 4MHz; Q Factor: 20@0.796MHz; Package Size: 1210; JLCPCB Basic Part: No; JLCPCB Part Number: C89021; Supplier 1: LCSC; Category: Inductors; Supplier Part Number 1: C89021; Tolerance: ±5%; Rated Current: 25mA; DC Resistance: 40Ω; RoHS: Yes; ComponentLink1Description: Datasheet; ComponentLink1URL: https://wmsc.lcsc.com/wmsc/upload/file/pdf/v2/lcsc/1811111712_TDK-NLV32T-471J-PF_C89021.pdf; ComponentLink2Description: JLCPCB Part URL; ComponentLink2URL: https://jlcpcb.com/partdetail/C89021; ComponentLink3Description: LCSC Part URL; ComponentLink3URL: https://lcsc.com/product-detail/Inductors-SMD_TDK-TDK-NLV32T-471J-PF_C89021.html
footprint IND-1210 (1210 (3225M) Inductor)
pins: 1, 2

## NLV32T-560J-EF
designator L?  Inductance: 56uH
Inductor, 56uH, ±5%, 8Ω, 55mA, SMD 1210; Manufacturer: TDK; Manufacturer Part Number: NLV32T-560J-EF; Self-Resonant Frequency: 13MHz; Q Factor: 30@2.52MHz; Package Size: 1210; JLCPCB Basic Part: No; JLCPCB Part Number: C295108; Supplier 1: LCSC; Category: Inductors; Supplier Part Number 1: C295108; Tolerance: ±5%; Rated Current: 55mA; DC Resistance: 8Ω; RoHS: Yes; ComponentLink1Description: Datasheet; ComponentLink1URL: https://wmsc.lcsc.com/wmsc/upload/file/pdf/v2/lcsc/2304140030_TDK-NLV32T-560J-EF_C295108.pdf; ComponentLink2Description: JLCPCB Part URL; ComponentLink2URL: https://jlcpcb.com/partdetail/C295108; ComponentLink3Description: LCSC Part URL; ComponentLink3URL: https://lcsc.com/product-detail/Inductors-SMD_TDK-TDK-NLV32T-560J-EF_C295108.html
footprint IND-1210 (1210 (3225M) Inductor)
pins: 1, 2

## NLV32T-560J-EFD
designator L?  Inductance: 56uH
Inductor, 56uH, ±5%, 8Ω, 55mA, SMD 1210; Manufacturer: TDK; Manufacturer Part Number: NLV32T-560J-EFD; Self-Resonant Frequency: 13MHz; Q Factor: 30@2.52MHz; Package Size: 1210; JLCPCB Basic Part: No; JLCPCB Part Number: C295314; Supplier 1: LCSC; Category: Inductors; Supplier Part Number 1: C295314; Tolerance: ±5%; Rated Current: 55mA; DC Resistance: 8Ω; RoHS: Yes; ComponentLink1Description: Datasheet; ComponentLink1URL: https://wmsc.lcsc.com/wmsc/upload/file/pdf/v2/lcsc/2304140030_TDK-NLV32T-560J-EFD_C295314.pdf; ComponentLink2Description: JLCPCB Part URL; ComponentLink2URL: https://jlcpcb.com/partdetail/C295314; ComponentLink3Description: LCSC Part URL; ComponentLink3URL: https://lcsc.com/product-detail/Inductors-SMD_TDK-TDK-NLV32T-560J-EFD_C295314.html
footprint IND-1210 (1210 (3225M) Inductor)
pins: 1, 2

## NLV32T-560J-PF
designator L?  Inductance: 56uH
Inductor, 56uH, ±5%, 8Ω, 55mA, SMD 1210; Manufacturer: TDK; Manufacturer Part Number: NLV32T-560J-PF; Self-Resonant Frequency: 13MHz; Q Factor: 30@2.52MHz; Package Size: 1210; JLCPCB Basic Part: No; JLCPCB Part Number: C89022; Supplier 1: LCSC; Category: Inductors; Supplier Part Number 1: C89022; Tolerance: ±5%; Rated Current: 55mA; DC Resistance: 8Ω; RoHS: Yes; ComponentLink1Description: Datasheet; ComponentLink1URL: https://wmsc.lcsc.com/wmsc/upload/file/pdf/v2/lcsc/1810201220_TDK-NLV32T-560J-PF_C89022.pdf; ComponentLink2Description: JLCPCB Part URL; ComponentLink2URL: https://jlcpcb.com/partdetail/C89022; ComponentLink3Description: LCSC Part URL; ComponentLink3URL: https://lcsc.com/product-detail/Inductors-SMD_TDK-TDK-NLV32T-560J-PF_C89022.html
footprint IND-1210 (1210 (3225M) Inductor)
pins: 1, 2

## NLV32T-680J-EF
designator L?  Inductance: 68uH
Inductor, 68uH, ±5%, 9Ω, 50mA, SMD 1210; Manufacturer: TDK; Manufacturer Part Number: NLV32T-680J-EF; Self-Resonant Frequency: 12MHz; Q Factor: 30@2.52MHz; Package Size: 1210; JLCPCB Basic Part: No; JLCPCB Part Number: C295164; Supplier 1: LCSC; Category: Inductors; Supplier Part Number 1: C295164; Tolerance: ±5%; Rated Current: 50mA; DC Resistance: 9Ω; RoHS: Yes; ComponentLink1Description: Datasheet; ComponentLink1URL: https://wmsc.lcsc.com/wmsc/upload/file/pdf/v2/lcsc/2304140030_TDK-NLV32T-680J-EF_C295164.pdf; ComponentLink2Description: JLCPCB Part URL; ComponentLink2URL: https://jlcpcb.com/partdetail/C295164; ComponentLink3Description: LCSC Part URL; ComponentLink3URL: https://lcsc.com/product-detail/Inductors-SMD_TDK-TDK-NLV32T-680J-EF_C295164.html
footprint IND-1210 (1210 (3225M) Inductor)
pins: 1, 2

## NLV32T-680J-EFD
designator L?  Inductance: 68uH
Inductor, 68uH, ±5%, 9Ω, 50mA, SMD 1210; Manufacturer: TDK; Manufacturer Part Number: NLV32T-680J-EFD; Self-Resonant Frequency: 12MHz; Q Factor: 30@2.52MHz; Package Size: 1210; JLCPCB Basic Part: No; JLCPCB Part Number: C295370; Supplier 1: LCSC; Category: Inductors; Supplier Part Number 1: C295370; Tolerance: ±5%; Rated Current: 50mA; DC Resistance: 9Ω; RoHS: Yes; ComponentLink1Description: Datasheet; ComponentLink1URL: https://wmsc.lcsc.com/wmsc/upload/file/pdf/v2/lcsc/2304140030_TDK-NLV32T-680J-EFD_C295370.pdf; ComponentLink2Description: JLCPCB Part URL; ComponentLink2URL: https://jlcpcb.com/partdetail/C295370; ComponentLink3Description: LCSC Part URL; ComponentLink3URL: https://lcsc.com/product-detail/Inductors-SMD_TDK-TDK-NLV32T-680J-EFD_C295370.html
footprint IND-1210 (1210 (3225M) Inductor)
pins: 1, 2

## NLV32T-680J-PF
designator L?  Inductance: 68uH
Inductor, 68uH, ±5%, 9Ω, 50mA, SMD 1210; Manufacturer: TDK; Manufacturer Part Number: NLV32T-680J-PF; Self-Resonant Frequency: 12MHz; Q Factor: 30@2.52MHz; Package Size: 1210; JLCPCB Basic Part: No; JLCPCB Part Number: C76843; Supplier 1: LCSC; Category: Inductors; Supplier Part Number 1: C76843; Tolerance: ±5%; Rated Current: 50mA; DC Resistance: 9Ω; RoHS: Yes; ComponentLink1Description: Datasheet; ComponentLink1URL: https://wmsc.lcsc.com/wmsc/upload/file/pdf/v2/lcsc/2304140030_TDK-NLV32T-680J-PF_C76843.pdf; ComponentLink2Description: JLCPCB Part URL; ComponentLink2URL: https://jlcpcb.com/partdetail/C76843; ComponentLink3Description: LCSC Part URL; ComponentLink3URL: https://lcsc.com/product-detail/Inductors-SMD_TDK-TDK-NLV32T-680J-PF_C76843.html
footprint IND-1210 (1210 (3225M) Inductor)
pins: 1, 2

## NLV32T-820J-EF
designator L?  Inductance: 82uH
Inductor, 82uH, ±5%, 10Ω, 45mA, SMD 1210; Manufacturer: TDK; Manufacturer Part Number: NLV32T-820J-EF; Self-Resonant Frequency: 11MHz; Q Factor: 30@2.52MHz; Package Size: 1210; JLCPCB Basic Part: No; JLCPCB Part Number: C295146; Supplier 1: LCSC; Category: Inductors; Supplier Part Number 1: C295146; Tolerance: ±5%; Rated Current: 45mA; DC Resistance: 10Ω; RoHS: Yes; ComponentLink1Description: Datasheet; ComponentLink1URL: https://wmsc.lcsc.com/wmsc/upload/file/pdf/v2/lcsc/2304140030_TDK-NLV32T-820J-EF_C295146.pdf; ComponentLink2Description: JLCPCB Part URL; ComponentLink2URL: https://jlcpcb.com/partdetail/C295146; ComponentLink3Description: LCSC Part URL; ComponentLink3URL: https://lcsc.com/product-detail/Inductors-SMD_TDK-TDK-NLV32T-820J-EF_C295146.html
footprint IND-1210 (1210 (3225M) Inductor)
pins: 1, 2

## NLV32T-820J-PF
designator L?  Inductance: 82uH
Inductor, 82uH, ±5%, 10Ω, 45mA, SMD 1210; Manufacturer: TDK; Manufacturer Part Number: NLV32T-820J-PF; Self-Resonant Frequency: 11MHz; Q Factor: 30@2.52MHz; Package Size: 1210; JLCPCB Basic Part: No; JLCPCB Part Number: C76844; Supplier 1: LCSC; Category: Inductors; Supplier Part Number 1: C76844; Tolerance: ±5%; Rated Current: 45mA; DC Resistance: 10Ω; RoHS: Yes; ComponentLink1Description: Datasheet; ComponentLink1URL: https://wmsc.lcsc.com/wmsc/upload/file/pdf/v2/lcsc/2304140030_TDK-NLV32T-820J-PF_C76844.pdf; ComponentLink2Description: JLCPCB Part URL; ComponentLink2URL: https://jlcpcb.com/partdetail/C76844; ComponentLink3Description: LCSC Part URL; ComponentLink3URL: https://lcsc.com/product-detail/Inductors-SMD_TDK-TDK-NLV32T-820J-PF_C76844.html
footprint IND-1210 (1210 (3225M) Inductor)
pins: 1, 2

## NLV32T-R10J-EF
designator L?  Inductance: 100nH
Inductor, 100nH, ±5%, 440mΩ, 450mA, SMD 1210; Manufacturer: TDK; Manufacturer Part Number: NLV32T-R10J-EF; Self-Resonant Frequency: 700MHz; Q Factor: 28@100MHz; Package Size: 1210; JLCPCB Basic Part: No; JLCPCB Part Number: C286759; Supplier 1: LCSC; Category: Inductors; Supplier Part Number 1: C286759; Tolerance: ±5%; Rated Current: 450mA; DC Resistance: 440mΩ; RoHS: Yes; ComponentLink1Description: Datasheet; ComponentLink1URL: https://wmsc.lcsc.com/wmsc/upload/file/pdf/v2/lcsc/2304140030_TDK-NLV32T-R10J-EF_C286759.pdf; ComponentLink2Description: JLCPCB Part URL; ComponentLink2URL: https://jlcpcb.com/partdetail/C286759; ComponentLink3Description: LCSC Part URL; ComponentLink3URL: https://lcsc.com/product-detail/Inductors-SMD_TDK-TDK-NLV32T-R10J-EF_C286759.html
footprint IND-1210 (1210 (3225M) Inductor)
pins: 1, 2

## NLV32T-R10J-EFD
designator L?  Inductance: 100nH
Inductor, 100nH, ±5%, 440mΩ, 450mA, SMD 1210; Manufacturer: TDK; Manufacturer Part Number: NLV32T-R10J-EFD; Self-Resonant Frequency: 700MHz; Q Factor: 28@100MHz; Package Size: 1210; JLCPCB Basic Part: No; JLCPCB Part Number: C295236; Supplier 1: LCSC; Category: Inductors; Supplier Part Number 1: C295236; Tolerance: ±5%; Rated Current: 450mA; DC Resistance: 440mΩ; RoHS: Yes; ComponentLink1Description: Datasheet; ComponentLink1URL: https://wmsc.lcsc.com/wmsc/upload/file/pdf/v2/lcsc/2304140030_TDK-NLV32T-R10J-EFD_C295236.pdf; ComponentLink2Description: JLCPCB Part URL; ComponentLink2URL: https://jlcpcb.com/partdetail/C295236; ComponentLink3Description: LCSC Part URL; ComponentLink3URL: https://lcsc.com/product-detail/Inductors-SMD_TDK-TDK-NLV32T-R10J-EFD_C295236.html
footprint IND-1210 (1210 (3225M) Inductor)
pins: 1, 2

## NLV32T-R10J-PF
designator L?  Inductance: 100nH
Inductor, 100nH, ±5%, 440mΩ, 450mA, SMD 1210; Manufacturer: TDK; Manufacturer Part Number: NLV32T-R10J-PF; Self-Resonant Frequency: 700MHz; Q Factor: 28@100MHz; Package Size: 1210; JLCPCB Basic Part: No; JLCPCB Part Number: C250173; Supplier 1: LCSC; Category: Inductors; Supplier Part Number 1: C250173; Tolerance: ±5%; Rated Current: 450mA; DC Resistance: 440mΩ; RoHS: Yes; ComponentLink1Description: Datasheet; ComponentLink1URL: https://wmsc.lcsc.com/wmsc/upload/file/pdf/v2/lcsc/2304140030_TDK-NLV32T-R10J-PF_C250173.pdf; ComponentLink2Description: JLCPCB Part URL; ComponentLink2URL: https://jlcpcb.com/partdetail/C250173; ComponentLink3Description: LCSC Part URL; ComponentLink3URL: https://lcsc.com/product-detail/Inductors-SMD_TDK-TDK-NLV32T-R10J-PF_C250173.html
footprint IND-1210 (1210 (3225M) Inductor)
pins: 1, 2

## NLV32T-R12J-EF
designator L?  Inductance: 120nH
Inductor, 120nH, ±5%, 220mΩ, 450mA, SMD 1210; Manufacturer: TDK; Manufacturer Part Number: NLV32T-R12J-EF; Self-Resonant Frequency: 500MHz; Q Factor: 30@25.2MHz; Package Size: 1210; JLCPCB Basic Part: No; JLCPCB Part Number: C295162; Supplier 1: LCSC; Category: Inductors; Supplier Part Number 1: C295162; Tolerance: ±5%; Rated Current: 450mA; DC Resistance: 220mΩ; RoHS: Yes; ComponentLink1Description: Datasheet; ComponentLink1URL: https://wmsc.lcsc.com/wmsc/upload/file/pdf/v2/lcsc/2304140030_TDK-NLV32T-R12J-EF_C295162.pdf; ComponentLink2Description: JLCPCB Part URL; ComponentLink2URL: https://jlcpcb.com/partdetail/C295162; ComponentLink3Description: LCSC Part URL; ComponentLink3URL: https://lcsc.com/product-detail/Inductors-SMD_TDK-TDK-NLV32T-R12J-EF_C295162.html
footprint IND-1210 (1210 (3225M) Inductor)
pins: 1, 2

## NLV32T-R12J-PF
designator L?  Inductance: 120nH
Inductor, 120nH, ±5%, 220mΩ, 450mA, SMD 1210; Manufacturer: TDK; Manufacturer Part Number: NLV32T-R12J-PF; Self-Resonant Frequency: 500MHz; Q Factor: 30@25.2MHz; Package Size: 1210; JLCPCB Basic Part: No; JLCPCB Part Number: C89024; Supplier 1: LCSC; Category: Inductors; Supplier Part Number 1: C89024; Tolerance: ±5%; Rated Current: 450mA; DC Resistance: 220mΩ; RoHS: Yes; ComponentLink1Description: Datasheet; ComponentLink1URL: https://wmsc.lcsc.com/wmsc/upload/file/pdf/v2/lcsc/2304140030_TDK-NLV32T-R12J-PF_C89024.pdf; ComponentLink2Description: JLCPCB Part URL; ComponentLink2URL: https://jlcpcb.com/partdetail/C89024; ComponentLink3Description: LCSC Part URL; ComponentLink3URL: https://lcsc.com/product-detail/Inductors-SMD_TDK-TDK-NLV32T-R12J-PF_C89024.html
footprint IND-1210 (1210 (3225M) Inductor)
pins: 1, 2

## NLV32T-R15J-PF
designator L?  Inductance: 150nH
Inductor, 150nH, ±5%, 250mΩ, 450mA, SMD 1210; Manufacturer: TDK; Manufacturer Part Number: NLV32T-R15J-PF; Self-Resonant Frequency: 450MHz; Q Factor: 30@25.2MHz; Package Size: 1210; JLCPCB Basic Part: No; JLCPCB Part Number: C89025; Supplier 1: LCSC; Category: Inductors; Supplier Part Number 1: C89025; Tolerance: ±5%; Rated Current: 450mA; DC Resistance: 250mΩ; RoHS: Yes; ComponentLink1Description: Datasheet; ComponentLink1URL: https://wmsc.lcsc.com/wmsc/upload/file/pdf/v2/lcsc/2304140030_TDK-NLV32T-R15J-PF_C89025.pdf; ComponentLink2Description: JLCPCB Part URL; ComponentLink2URL: https://jlcpcb.com/partdetail/C89025; ComponentLink3Description: LCSC Part URL; ComponentLink3URL: https://lcsc.com/product-detail/Inductors-SMD_TDK-TDK-NLV32T-R15J-PF_C89025.html
footprint IND-1210 (1210 (3225M) Inductor)
pins: 1, 2

## NLV32T-R18J-EF
designator L?  Inductance: 180nH
Inductor, 180nH, ±5%, 280mΩ, 450mA, SMD 1210; Manufacturer: TDK; Manufacturer Part Number: NLV32T-R18J-EF; Self-Resonant Frequency: 400MHz; Q Factor: 30@25.2MHz; Package Size: 1210; JLCPCB Basic Part: No; JLCPCB Part Number: C295148; Supplier 1: LCSC; Category: Inductors; Supplier Part Number 1: C295148; Tolerance: ±5%; Rated Current: 450mA; DC Resistance: 280mΩ; RoHS: Yes; ComponentLink1Description: Datasheet; ComponentLink1URL: https://wmsc.lcsc.com/wmsc/upload/file/pdf/v2/lcsc/2304140030_TDK-NLV32T-R18J-EF_C295148.pdf; ComponentLink2Description: JLCPCB Part URL; ComponentLink2URL: https://jlcpcb.com/partdetail/C295148; ComponentLink3Description: LCSC Part URL; ComponentLink3URL: https://lcsc.com/product-detail/Inductors-SMD_TDK-TDK-NLV32T-R18J-EF_C295148.html
footprint IND-1210 (1210 (3225M) Inductor)
pins: 1, 2

## NLV32T-R18J-EFD
designator L?  Inductance: 180nH
Inductor, 180nH, ±5%, 280mΩ, 450mA, SMD 1210; Manufacturer: TDK; Manufacturer Part Number: NLV32T-R18J-EFD; Self-Resonant Frequency: 400MHz; Q Factor: 30@25.2MHz; Package Size: 1210; JLCPCB Basic Part: No; JLCPCB Part Number: C295219; Supplier 1: LCSC; Category: Inductors; Supplier Part Number 1: C295219; Tolerance: ±5%; Rated Current: 450mA; DC Resistance: 280mΩ; RoHS: Yes; ComponentLink1Description: Datasheet; ComponentLink1URL: https://wmsc.lcsc.com/wmsc/upload/file/pdf/v2/lcsc/2304140030_TDK-NLV32T-R18J-EFD_C295219.pdf; ComponentLink2Description: JLCPCB Part URL; ComponentLink2URL: https://jlcpcb.com/partdetail/C295219; ComponentLink3Description: LCSC Part URL; ComponentLink3URL: https://lcsc.com/product-detail/Inductors-SMD_TDK-TDK-NLV32T-R18J-EFD_C295219.html
footprint IND-1210 (1210 (3225M) Inductor)
pins: 1, 2

## NLV32T-R18J-PF
designator L?  Inductance: 180nH
Inductor, 180nH, ±5%, 280mΩ, 450mA, SMD 1210; Manufacturer: TDK; Manufacturer Part Number: NLV32T-R18J-PF; Self-Resonant Frequency: 400MHz; Q Factor: 30@25.2MHz; Package Size: 1210; JLCPCB Basic Part: No; JLCPCB Part Number: C250174; Supplier 1: LCSC; Category: Inductors; Supplier Part Number 1: C250174; Tolerance: ±5%; Rated Current: 450mA; DC Resistance: 280mΩ; RoHS: Yes; ComponentLink1Description: Datasheet; ComponentLink1URL: https://wmsc.lcsc.com/wmsc/upload/file/pdf/v2/lcsc/2304140030_TDK-NLV32T-R18J-PF_C250174.pdf; ComponentLink2Description: JLCPCB Part URL; ComponentLink2URL: https://jlcpcb.com/partdetail/C250174; ComponentLink3Description: LCSC Part URL; ComponentLink3URL: https://lcsc.com/product-detail/Inductors-SMD_TDK-TDK-NLV32T-R18J-PF_C250174.html
footprint IND-1210 (1210 (3225M) Inductor)
pins: 1, 2

## NLV32T-R22J-EF
designator L?  Inductance: 220nH
Inductor, 220nH, ±5%, 320mΩ, 450mA, SMD 1210; Manufacturer: TDK; Manufacturer Part Number: NLV32T-R22J-EF; Self-Resonant Frequency: 350MHz; Q Factor: 30@25.2MHz; Package Size: 1210; JLCPCB Basic Part: No; JLCPCB Part Number: C295149; Supplier 1: LCSC; Category: Inductors; Supplier Part Number 1: C295149; Tolerance: ±5%; Rated Current: 450mA; DC Resistance: 320mΩ; RoHS: Yes; ComponentLink1Description: Datasheet; ComponentLink1URL: https://wmsc.lcsc.com/wmsc/upload/file/pdf/v2/lcsc/2304140030_TDK-NLV32T-R22J-EF_C295149.pdf; ComponentLink2Description: JLCPCB Part URL; ComponentLink2URL: https://jlcpcb.com/partdetail/C295149; ComponentLink3Description: LCSC Part URL; ComponentLink3URL: https://lcsc.com/product-detail/Inductors-SMD_TDK-TDK-NLV32T-R22J-EF_C295149.html
footprint IND-1210 (1210 (3225M) Inductor)
pins: 1, 2

## NLV32T-R22J-EFD
designator L?  Inductance: 220nH
Inductor, 220nH, ±5%, 320mΩ, 450mA, SMD 1210; Manufacturer: TDK; Manufacturer Part Number: NLV32T-R22J-EFD; Self-Resonant Frequency: 350MHz; Q Factor: 30@25.2MHz; Package Size: 1210; JLCPCB Basic Part: No; JLCPCB Part Number: C295371; Supplier 1: LCSC; Category: Inductors; Supplier Part Number 1: C295371; Tolerance: ±5%; Rated Current: 450mA; DC Resistance: 320mΩ; RoHS: Yes; ComponentLink1Description: Datasheet; ComponentLink1URL: https://wmsc.lcsc.com/wmsc/upload/file/pdf/v2/lcsc/1912111437_TDK-NLV32T-R22J-EFD_C295371.pdf; ComponentLink2Description: JLCPCB Part URL; ComponentLink2URL: https://jlcpcb.com/partdetail/C295371; ComponentLink3Description: LCSC Part URL; ComponentLink3URL: https://lcsc.com/product-detail/Inductors-SMD_TDK-TDK-NLV32T-R22J-EFD_C295371.html
footprint IND-1210 (1210 (3225M) Inductor)
pins: 1, 2

## NLV32T-R22J-PF
designator L?  Inductance: 220nH
Inductor, 220nH, ±5%, 320mΩ, 450mA, SMD 1210; Manufacturer: TDK; Manufacturer Part Number: NLV32T-R22J-PF; Self-Resonant Frequency: 350MHz; Q Factor: 30@25.2MHz; Package Size: 1210; JLCPCB Basic Part: No; JLCPCB Part Number: C89026; Supplier 1: LCSC; Category: Inductors; Supplier Part Number 1: C89026; Tolerance: ±5%; Rated Current: 450mA; DC Resistance: 320mΩ; RoHS: Yes; ComponentLink1Description: Datasheet; ComponentLink1URL: https://wmsc.lcsc.com/wmsc/upload/file/pdf/v2/lcsc/2304140030_TDK-NLV32T-R22J-PF_C89026.pdf; ComponentLink2Description: JLCPCB Part URL; ComponentLink2URL: https://jlcpcb.com/partdetail/C89026; ComponentLink3Description: LCSC Part URL; ComponentLink3URL: https://lcsc.com/product-detail/Inductors-SMD_TDK-TDK-NLV32T-R22J-PF_C89026.html
footprint IND-1210 (1210 (3225M) Inductor)
pins: 1, 2